# Altium footprint library LED.PcbLib: 1 footprints
Each footprint in its own frame and in the unit in brackets; x right, y up, seen from the top. Pads: shape width x height; smd on the part's side, far side on the other; paste and mask are expansions set on the pad; w line width, h text height; cw(c..) or ccw(c..) is an arc to the next point about the centre after c.
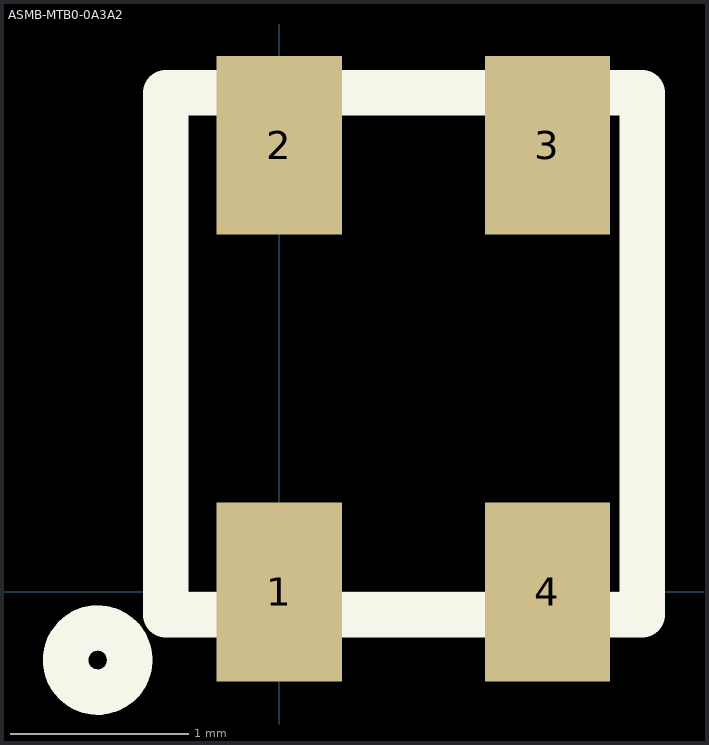
[diagram p0: the footprint, top view; thin cyan lines are the x and y axes]

## ASMB-MTB0-0A3A2 [mm]
pads (4):
  rect 0.7x1 smd: 1(0,0) 2(0,2.5) 3(1.5,2.5) 4(1.5,0)
Top Overlay:
  circle w0.254: c-1.016,-0.381 r0.18
  lines w0.254: -0.635,-0.127 -0.635,2.794 2.032,2.794 2.032,-0.127 -0.635,-0.127